# Altium footprint library PcbLib2.PcbLib: 1 footprints
Each footprint in its own frame and in the unit in brackets; x right, y up, seen from the top. Pads: shape width x height; smd on the part's side, far side on the other; paste and mask are expansions set on the pad; w line width, h text height; cw(c..) or ccw(c..) is an arc to the next point about the centre after c.
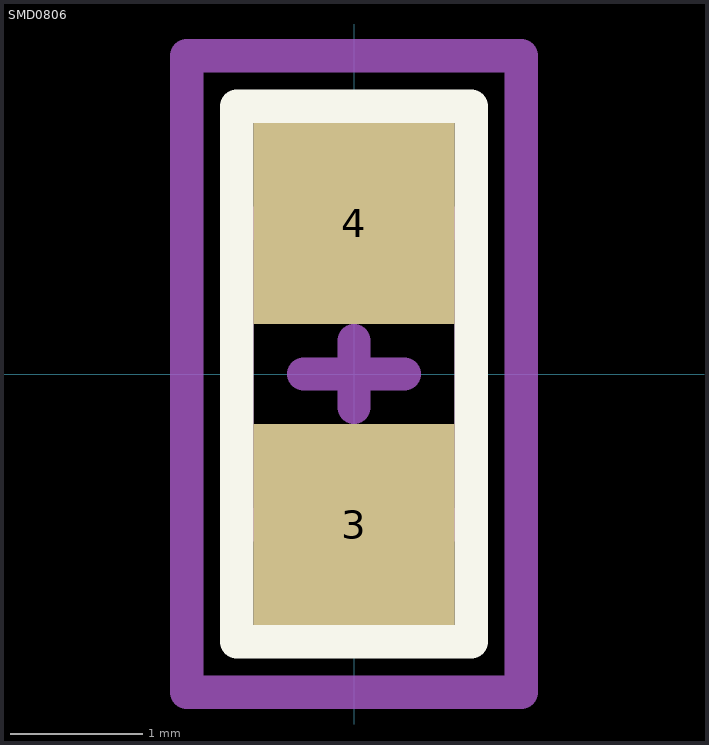
[diagram p0: the footprint, top view; thin cyan lines are the x and y axes]

## SMD0806 [mil]
pads (2):
  rect 60x60 smd: 3(0,-45) 4(0,45)
Top Overlay:
  lines w10: -35,-80 35,-80 35,80 -35,80 -35,-80
Top Assy:
  lines w10: -35,-45 -35,45 35,45 35,-45 -35,-45
Border:
  lines w10: -15,0 15,0 ; 0,-10 0,10 ; -50,-95 50,-95 50,95 -50,95 -50,-95
3D body "катушка индуктивности 0805.stp": height -1.57, standoff -61.8, extent -34.06,-45.08 34.06,45.08